# Altium integrated library NSC MiscPower.IntLib: 1417 symbols (part 9 of 39)
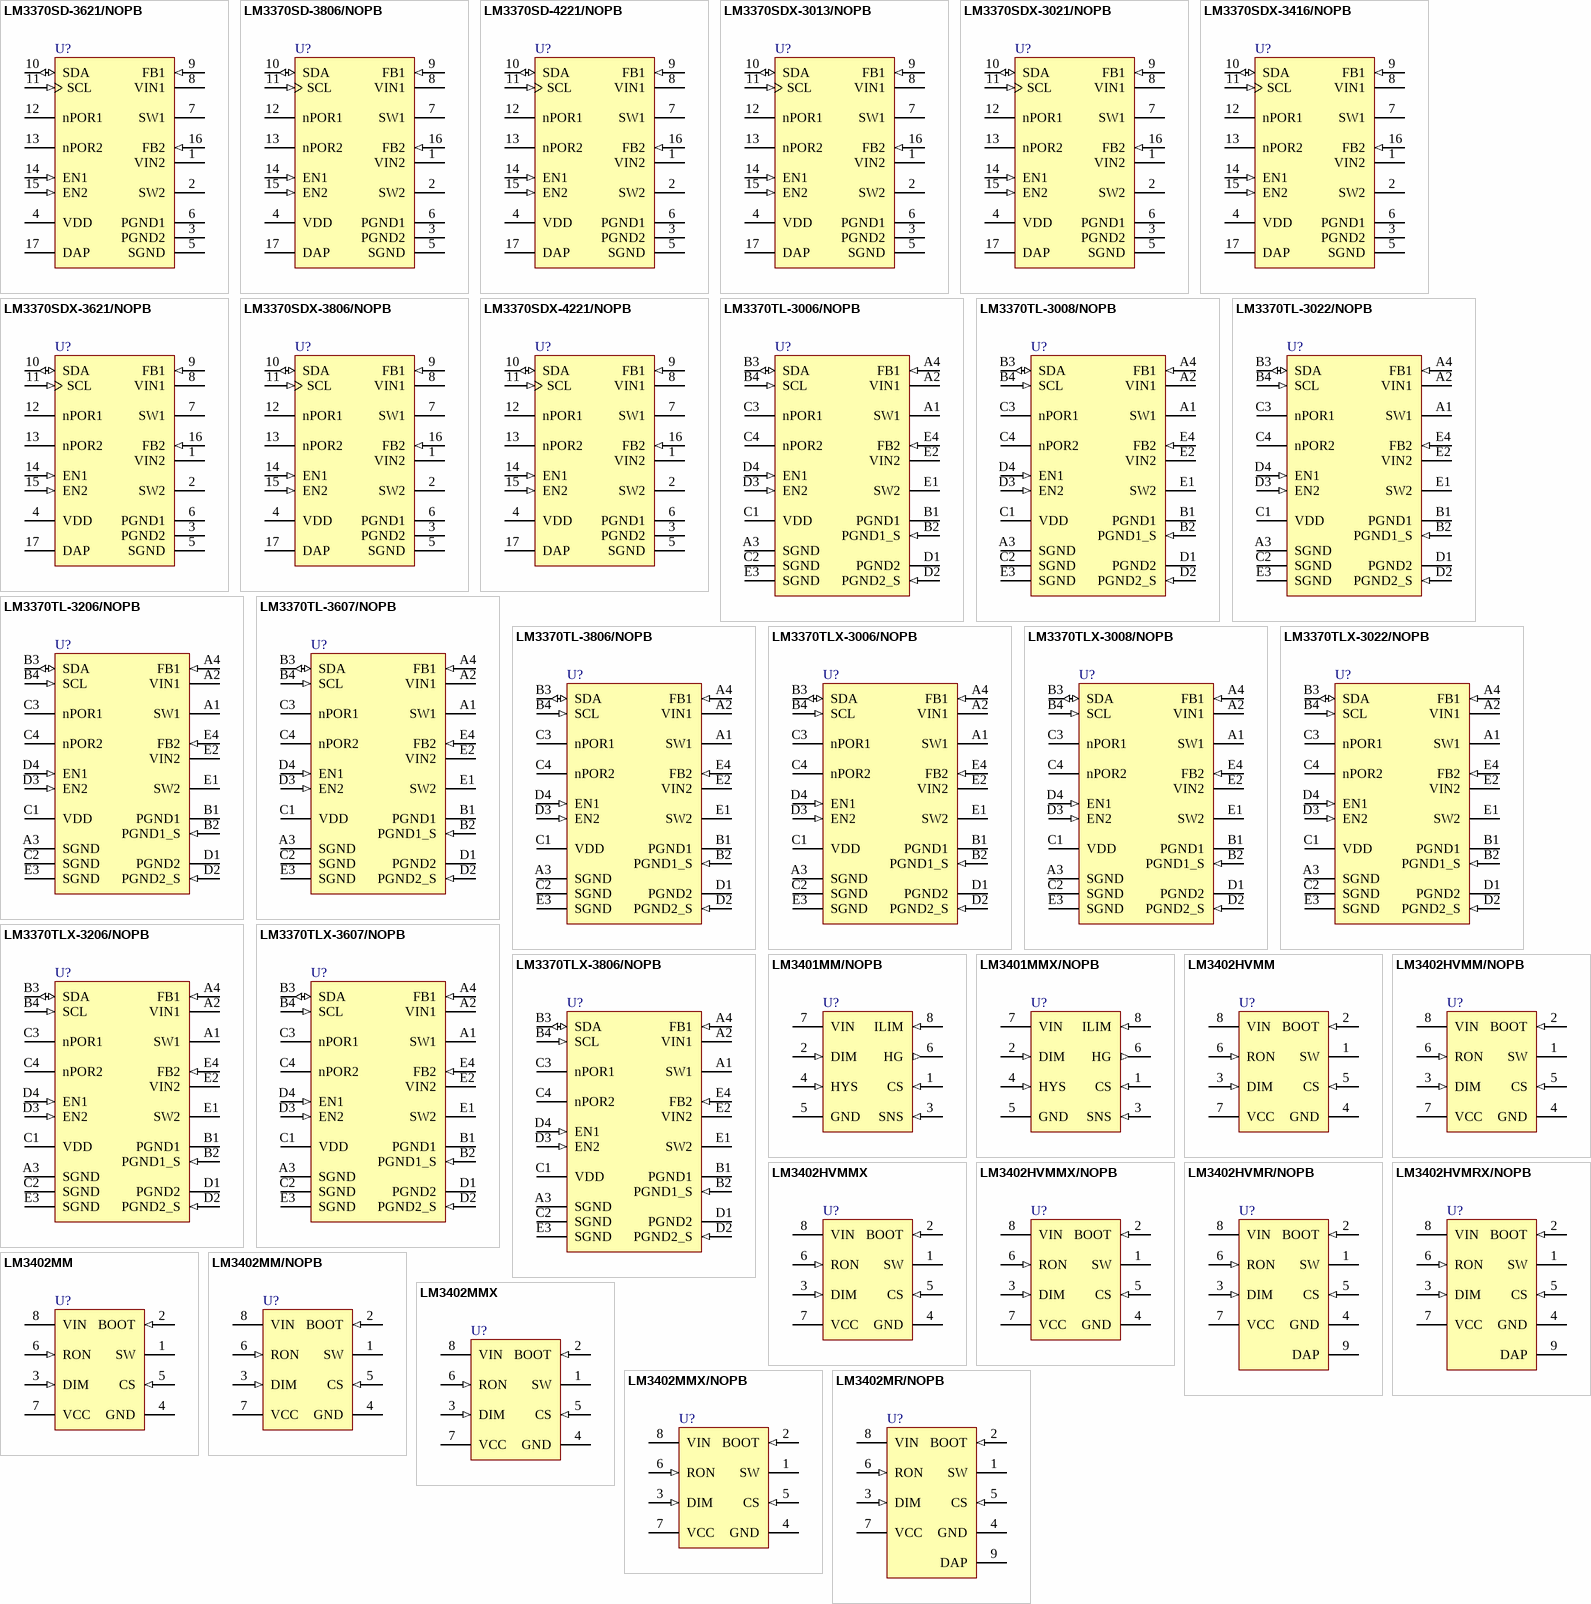
[diagram p59: symbols LM3370SD-3621/NOPB to LM3402MR/NOPB]

## LM3370TLX-3206/NOPB
designator U?
Dual Synchronous Step-Down DC-DC Converter with Dynamic Voltage Scaling Function, 20-pin Micro SMD, Pb-Free; PartNumber: LM3370TLX-3206/NOPB; Manufacturer: National Semiconductor; PackageTopMarking: XYTT*I SPXB; PowerWise: Y; CompType: MiscPower; Published: 1-Mar-2010; DatasheetVersion: Jan-2008; PackageVersion: revC, Jan-2004; PackageReference: TLA20DWA; Publisher: Altium Limited; PackageDescription: Thin Micro SMD, 20 Bump (Large), 0.5mm Pitch; Supplier 1: Digi-Key; Supplier Part Number 1: LM3370TLX-3206-ND; RoHS: Y; PinCount: 20; Code_JEDEC: MO-211-DG; ComponentLink1Description: LM3370 Datasheet; ComponentLink1URL: http://www.national.com/ds/LM/LM3370.pdf; ComponentLink2Description: LM3370 Web Page; ComponentLink2URL: http://www.national.com/pf/LM/LM3370.html; ComponentLink3Description: TLA20DWA Package Page; ComponentLink3URL: http://www.national.com/packaging/folders/tla20dwa.html
footprint TLA20DWA (Micro SMD, 20-Leads, Body 3x2.05mm, Pitch 0.5mm, NSC Recommended)
pins: A1 SW1 (power) "Buck 1 Switch Pin", A2 VIN1 (power) "Power supply voltage input to PFET and NFET switches for Buck 1", A3 SGND (power) "Signal GND", A4 FB1 (in) "Analog Feedback Input for Buck 1", B1 PGND1 (power) "Buck 1 Power Ground", B2 PGND1_S (in) "Buck 1 Power Ground Sense", B3 SDA (io) "I2C Compatible Data, a 2 kOhm pull up resistor is required", B4 SCL (in) "I2C Compatible Clock, a 2 kOhm pull up resistor is required", C1 VDD (power) "Signal supply voltage input.", C2 SGND (power) "Signal GND", C3 nPOR1 (oc) "Power ON Reset for Buck 1, Open drain output Low when Buck 1 output is 92% of target output.", C4 nPOR2 (oc) "Power ON Reset for Buck 2, Open drain output Low when Buck 2 output is 92% of target output.", D1 PGND2 (power) "Buck 2 Power Ground", D2 PGND2_S (in) "Buck 2 Power Ground Sense", D3 EN2 (in) "Buck 2 Enable", D4 EN1 (in) "Buck 1 Enable", E1 SW2 (power) "Buck 2 Switch Pin", E2 VIN2 (power) "Power supply voltage input to PFET and NFET switches for Buck 2", E3 SGND (power) "Signal GND", E4 FB2 (in) "Analog feedback for Buck 2"

## LM3370TLX-3607/NOPB
designator U?
Dual Synchronous Step-Down DC-DC Converter with Dynamic Voltage Scaling Function, 20-pin Micro SMD, Pb-Free; PartNumber: LM3370TLX-3607/NOPB; Manufacturer: National Semiconductor; PackageTopMarking: XYTT*I SPSB; PowerWise: Y; CompType: MiscPower; Published: 1-Mar-2010; DatasheetVersion: Jan-2008; PackageVersion: revC, Jan-2004; PackageReference: TLA20DWA; Publisher: Altium Limited; PackageDescription: Thin Micro SMD, 20 Bump (Large), 0.5mm Pitch; Supplier 1: Digi-Key; Supplier Part Number 1: LM3370TLX-3607-ND; RoHS: Y; PinCount: 20; Code_JEDEC: MO-211-DG; ComponentLink1Description: LM3370 Datasheet; ComponentLink1URL: http://www.national.com/ds/LM/LM3370.pdf; ComponentLink2Description: LM3370 Web Page; ComponentLink2URL: http://www.national.com/pf/LM/LM3370.html; ComponentLink3Description: TLA20DWA Package Page; ComponentLink3URL: http://www.national.com/packaging/folders/tla20dwa.html
footprint TLA20DWA (Micro SMD, 20-Leads, Body 3x2.05mm, Pitch 0.5mm, NSC Recommended)
pins: A1 SW1 (power) "Buck 1 Switch Pin", A2 VIN1 (power) "Power supply voltage input to PFET and NFET switches for Buck 1", A3 SGND (power) "Signal GND", A4 FB1 (in) "Analog Feedback Input for Buck 1", B1 PGND1 (power) "Buck 1 Power Ground", B2 PGND1_S (in) "Buck 1 Power Ground Sense", B3 SDA (io) "I2C Compatible Data, a 2 kOhm pull up resistor is required", B4 SCL (in) "I2C Compatible Clock, a 2 kOhm pull up resistor is required", C1 VDD (power) "Signal supply voltage input.", C2 SGND (power) "Signal GND", C3 nPOR1 (oc) "Power ON Reset for Buck 1, Open drain output Low when Buck 1 output is 92% of target output.", C4 nPOR2 (oc) "Power ON Reset for Buck 2, Open drain output Low when Buck 2 output is 92% of target output.", D1 PGND2 (power) "Buck 2 Power Ground", D2 PGND2_S (in) "Buck 2 Power Ground Sense", D3 EN2 (in) "Buck 2 Enable", D4 EN1 (in) "Buck 1 Enable", E1 SW2 (power) "Buck 2 Switch Pin", E2 VIN2 (power) "Power supply voltage input to PFET and NFET switches for Buck 2", E3 SGND (power) "Signal GND", E4 FB2 (in) "Analog feedback for Buck 2"

## LM3370TLX-3806/NOPB
designator U?
Dual Synchronous Step-Down DC-DC Converter with Dynamic Voltage Scaling Function, 20-pin Micro SMD, Pb-Free; PartNumber: LM3370TLX-3806/NOPB; Manufacturer: National Semiconductor; PackageTopMarking: XYTT*I SPVB; PowerWise: Y; CompType: MiscPower; Published: 1-Mar-2010; DatasheetVersion: Jan-2008; PackageVersion: revC, Jan-2004; PackageReference: TLA20DWA; Publisher: Altium Limited; PackageDescription: Thin Micro SMD, 20 Bump (Large), 0.5mm Pitch; Supplier 1: Digi-Key; Supplier Part Number 1: LM3370TLX-3806-ND; RoHS: Y; PinCount: 20; Code_JEDEC: MO-211-DG; ComponentLink1Description: LM3370 Datasheet; ComponentLink1URL: http://www.national.com/ds/LM/LM3370.pdf; ComponentLink2Description: LM3370 Web Page; ComponentLink2URL: http://www.national.com/pf/LM/LM3370.html; ComponentLink3Description: TLA20DWA Package Page; ComponentLink3URL: http://www.national.com/packaging/folders/tla20dwa.html
footprint TLA20DWA (Micro SMD, 20-Leads, Body 3x2.05mm, Pitch 0.5mm, NSC Recommended)
pins: A1 SW1 (power) "Buck 1 Switch Pin", A2 VIN1 (power) "Power supply voltage input to PFET and NFET switches for Buck 1", A3 SGND (power) "Signal GND", A4 FB1 (in) "Analog Feedback Input for Buck 1", B1 PGND1 (power) "Buck 1 Power Ground", B2 PGND1_S (in) "Buck 1 Power Ground Sense", B3 SDA (io) "I2C Compatible Data, a 2 kOhm pull up resistor is required", B4 SCL (in) "I2C Compatible Clock, a 2 kOhm pull up resistor is required", C1 VDD (power) "Signal supply voltage input.", C2 SGND (power) "Signal GND", C3 nPOR1 (oc) "Power ON Reset for Buck 1, Open drain output Low when Buck 1 output is 92% of target output.", C4 nPOR2 (oc) "Power ON Reset for Buck 2, Open drain output Low when Buck 2 output is 92% of target output.", D1 PGND2 (power) "Buck 2 Power Ground", D2 PGND2_S (in) "Buck 2 Power Ground Sense", D3 EN2 (in) "Buck 2 Enable", D4 EN1 (in) "Buck 1 Enable", E1 SW2 (power) "Buck 2 Switch Pin", E2 VIN2 (power) "Power supply voltage input to PFET and NFET switches for Buck 2", E3 SGND (power) "Signal GND", E4 FB2 (in) "Analog feedback for Buck 2"

## LM3401MM/NOPB
designator U?
Hysteretic PFET Controller for High Power LED Drive, 8-pin MSOP, Pb-Free; PartNumber: LM3401MM/NOPB; Manufacturer: National Semiconductor; PackageTopMarking: ZXTT*SNHB; PowerWise: Y; CompType: MiscPower; Published: 1-Mar-2010; DatasheetVersion: Mar-2008; PackageVersion: revF, Apr-2008; PackageReference: MUA08A; Publisher: Altium Limited; PackageDescription: MINI SOIC, .118 x .118 x .034in, 8 Lead, .0256in Pitch; Supplier 1: Digi-Key; Supplier Part Number 1: LM3401MMTR-ND; Supplier 2: Digi-Key; Supplier Part Number 2: LM3401MMCT-ND; Supplier 3: Digi-Key; Supplier Part Number 3: LM3401MMDKR-ND; Supplier 4: Farnell; Supplier Part Number 4: 1675293; RoHS: Y; PinCount: 8; Code_JEDEC: MO-187-AA; ComponentLink1Description: LM3401 Datasheet; ComponentLink1URL: http://www.national.com/ds/LM/LM3401.pdf; ComponentLink2Description: LM3401 Web Page; ComponentLink2URL: http://www.national.com/pf/LM/LM3401.html; ComponentLink3Description: MUA08A Package Page; ComponentLink3URL: http://www.national.com/packaging/folders/mua08a.html
footprint MUA08A_N (TSOP, 8-Leads, Body 3x3mm, Pitch 0.65mm, IPC Medium Density)
footprint MUA08A_L (TSOP, 8-Leads, Body 3x3mm, Pitch 0.65mm, IPC High Density)
footprint MUA08A_M (TSOP, 8-Leads, Body 3x3mm, Pitch 0.65mm, IPC Low Density)
pins: 1 CS (in), 2 DIM (in), 3 SNS (in), 4 HYS (in), 5 GND (power), 6 HG (out), 7 VIN (power), 8 ILIM (in)

## LM3401MMX/NOPB
designator U?
Hysteretic PFET Controller for High Power LED Drive, 8-pin MSOP, Pb-Free; PartNumber: LM3401MMX/NOPB; Manufacturer: National Semiconductor; PackageTopMarking: ZXTT*SNHB; PowerWise: Y; CompType: MiscPower; Published: 1-Mar-2010; DatasheetVersion: Mar-2008; PackageVersion: revF, Apr-2008; PackageReference: MUA08A; Publisher: Altium Limited; PackageDescription: MINI SOIC, .118 x .118 x .034in, 8 Lead, .0256in Pitch; Supplier 1: Digi-Key; Supplier Part Number 1: LM3401MMX-ND; RoHS: Y; PinCount: 8; Code_JEDEC: MO-187-AA; ComponentLink1Description: LM3401 Datasheet; ComponentLink1URL: http://www.national.com/ds/LM/LM3401.pdf; ComponentLink2Description: LM3401 Web Page; ComponentLink2URL: http://www.national.com/pf/LM/LM3401.html; ComponentLink3Description: MUA08A Package Page; ComponentLink3URL: http://www.national.com/packaging/folders/mua08a.html
footprint MUA08A_N (TSOP, 8-Leads, Body 3x3mm, Pitch 0.65mm, IPC Medium Density)
footprint MUA08A_L (TSOP, 8-Leads, Body 3x3mm, Pitch 0.65mm, IPC High Density)
footprint MUA08A_M (TSOP, 8-Leads, Body 3x3mm, Pitch 0.65mm, IPC Low Density)
pins: 1 CS (in), 2 DIM (in), 3 SNS (in), 4 HYS (in), 5 GND (power), 6 HG (out), 7 VIN (power), 8 ILIM (in)

## LM3402HVMM
designator U?
0.5A Constant Current Buck Regulator for High Power LED Drivers, 8-pin MSOP; PartNumber: LM3402HVMM; Manufacturer: National Semiconductor; PackageTopMarking: ZXTT*SNFB; PowerWise: Y; CompType: MiscPower; Published: 4-Dec-2008; DatasheetVersion: Feb-2010; PackageVersion: revF, Apr-2008; PackageReference: MUA08A; Publisher: Altium Limited; PackageDescription: MINI SOIC, .118 x .118 x .034in, 8 Lead, .0256in Pitch; Supplier 1: Farnell; Supplier Part Number 1: 1290934; RoHS: N; PinCount: 8; Code_JEDEC: MO-187-AA; ComponentLink1Description: LM3402HV Datasheet; ComponentLink1URL: http://www.national.com/ds/LM/LM3402HV.pdf; ComponentLink2Description: LM3402HV Web Page; ComponentLink2URL: http://www.national.com/pf/LM/LM3402HV.html; ComponentLink3Description: MUA08A Package Page; ComponentLink3URL: http://www.national.com/packaging/folders/mua08a.html
footprint MUA08A_N (TSOP, 8-Leads, Body 3x3mm, Pitch 0.65mm, IPC Medium Density)
footprint MUA08A_L (TSOP, 8-Leads, Body 3x3mm, Pitch 0.65mm, IPC High Density)
footprint MUA08A_M (TSOP, 8-Leads, Body 3x3mm, Pitch 0.65mm, IPC Low Density)
pins: 1 SW (power), 2 BOOT (in), 3 DIM (in), 4 GND (power), 5 CS (in), 6 RON (in), 7 VCC (power), 8 VIN (power)

## LM3402HVMM/NOPB
designator U?
0.5A Constant Current Buck Regulator for High Power LED Drivers, 8-pin MSOP, Pb-Free; PartNumber: LM3402HVMM/NOPB; Manufacturer: National Semiconductor; PackageTopMarking: ZXTT*SNFB; PowerWise: Y; CompType: MiscPower; Published: 1-Mar-2010; DatasheetVersion: Jun-2007; PackageVersion: revF, Apr-2008; PackageReference: MUA08A; Publisher: Altium Limited; PackageDescription: MINI SOIC, .118 x .118 x .034in, 8 Lead, .0256in Pitch; Supplier 1: Digi-Key; Supplier Part Number 1: LM3402HVMMTR-ND; Supplier 2: Digi-Key; Supplier Part Number 2: LM3402HVMMCT-ND; Supplier 3: Digi-Key; Supplier Part Number 3: LM3402HVMMDKR-ND; RoHS: Y; PinCount: 8; Code_JEDEC: MO-187-AA; ComponentLink1Description: LM3402HV Datasheet; ComponentLink1URL: http://www.national.com/ds/LM/LM3402HV.pdf; ComponentLink2Description: LM3402HV Web Page; ComponentLink2URL: http://www.national.com/pf/LM/LM3402HV.html; ComponentLink3Description: MUA08A Package Page; ComponentLink3URL: http://www.national.com/packaging/folders/mua08a.html
footprint MUA08A_N (TSOP, 8-Leads, Body 3x3mm, Pitch 0.65mm, IPC Medium Density)
footprint MUA08A_L (TSOP, 8-Leads, Body 3x3mm, Pitch 0.65mm, IPC High Density)
footprint MUA08A_M (TSOP, 8-Leads, Body 3x3mm, Pitch 0.65mm, IPC Low Density)
pins: 1 SW (power), 2 BOOT (in), 3 DIM (in), 4 GND (power), 5 CS (in), 6 RON (in), 7 VCC (power), 8 VIN (power)

## LM3402HVMMX
designator U?
0.5A Constant Current Buck Regulator for High Power LED Drivers, 8-pin MSOP; PartNumber: LM3402HVMMX; Manufacturer: National Semiconductor; PackageTopMarking: ZXTT*SNFB; PowerWise: Y; CompType: MiscPower; Published: 1-Mar-2010; DatasheetVersion: Jun-2007; PackageVersion: revF, Apr-2008; PackageReference: MUA08A; Publisher: Altium Limited; PackageDescription: MINI SOIC, .118 x .118 x .034in, 8 Lead, .0256in Pitch; RoHS: N; PinCount: 8; Code_JEDEC: MO-187-AA; ComponentLink1Description: LM3402HV Datasheet; ComponentLink1URL: http://www.national.com/ds/LM/LM3402HV.pdf; ComponentLink2Description: LM3402HV Web Page; ComponentLink2URL: http://www.national.com/pf/LM/LM3402HV.html; ComponentLink3Description: MUA08A Package Page; ComponentLink3URL: http://www.national.com/packaging/folders/mua08a.html
footprint MUA08A_N (TSOP, 8-Leads, Body 3x3mm, Pitch 0.65mm, IPC Medium Density)
footprint MUA08A_L (TSOP, 8-Leads, Body 3x3mm, Pitch 0.65mm, IPC High Density)
footprint MUA08A_M (TSOP, 8-Leads, Body 3x3mm, Pitch 0.65mm, IPC Low Density)
pins: 1 SW (power), 2 BOOT (in), 3 DIM (in), 4 GND (power), 5 CS (in), 6 RON (in), 7 VCC (power), 8 VIN (power)

## LM3402HVMMX/NOPB
designator U?
0.5A Constant Current Buck Regulator for High Power LED Drivers, 8-pin MSOP, Pb-Free; PartNumber: LM3402HVMMX/NOPB; Manufacturer: National Semiconductor; PackageTopMarking: ZXTT*SNFB; PowerWise: Y; CompType: MiscPower; Published: 1-Mar-2010; DatasheetVersion: Jun-2007; PackageVersion: revF, Apr-2008; PackageReference: MUA08A; Publisher: Altium Limited; PackageDescription: MINI SOIC, .118 x .118 x .034in, 8 Lead, .0256in Pitch; Supplier 1: Digi-Key; Supplier Part Number 1: LM3402HVMMX-ND; RoHS: Y; PinCount: 8; Code_JEDEC: MO-187-AA; ComponentLink1Description: LM3402HV Datasheet; ComponentLink1URL: http://www.national.com/ds/LM/LM3402HV.pdf; ComponentLink2Description: LM3402HV Web Page; ComponentLink2URL: http://www.national.com/pf/LM/LM3402HV.html; ComponentLink3Description: MUA08A Package Page; ComponentLink3URL: http://www.national.com/packaging/folders/mua08a.html
footprint MUA08A_N (TSOP, 8-Leads, Body 3x3mm, Pitch 0.65mm, IPC Medium Density)
footprint MUA08A_L (TSOP, 8-Leads, Body 3x3mm, Pitch 0.65mm, IPC High Density)
footprint MUA08A_M (TSOP, 8-Leads, Body 3x3mm, Pitch 0.65mm, IPC Low Density)
pins: 1 SW (power), 2 BOOT (in), 3 DIM (in), 4 GND (power), 5 CS (in), 6 RON (in), 7 VCC (power), 8 VIN (power)

## LM3402HVMR/NOPB
designator U?
0.5A Constant Current Buck Regulator for High Power LED Drivers, 8-pin PSOP, Pb-Free; PartNumber: LM3402HVMR/NOPB; Manufacturer: National Semiconductor; PackageTopMarking: NSXYTT*L3402*HVMR; PowerWise: N; CompType: MiscPower; Published: 1-Mar-2010; DatasheetVersion: Jun-2007; PackageVersion: revB, Dec-2007; PackageReference: MRA08B; Publisher: Altium Limited; PackageDescription: Molded, PSOP .193 x .154 x .058in, 8 Lead, .050in Pitch, Large DAP; Supplier 1: Digi-Key; Supplier Part Number 1: LM3402HVMR-ND; Supplier 2: Farnell; Supplier Part Number 2: 1652390; RoHS: Y; PinCount: 8; Code_JEDEC: MS-012-AA; ComponentLink1Description: LM3402HV Datasheet; ComponentLink1URL: http://www.national.com/ds/LM/LM3402HV.pdf; ComponentLink2Description: LM3402HV Web Page; ComponentLink2URL: http://www.national.com/pf/LM/LM3402HV.html; ComponentLink3Description: MRA08B Package Page; ComponentLink3URL: http://www.national.com/packaging/folders/mra08b.html
footprint MRA08B_N (SOIC, 8-Leads, Body 4.9x3.9mm, Pitch 1.27mm, Exposed Pad, IPC Medium Density)
footprint MRA08B_L (SOIC, 8-Leads, Body 4.9x3.9mm, Pitch 1.27mm, Exposed Pad, IPC High Density)
footprint MRA08B_M (SOIC, 8-Leads, Body 4.9x3.9mm, Pitch 1.27mm, Exposed Pad, IPC Low Density)
pins: 1 SW (power), 2 BOOT (in), 3 DIM (in), 4 GND (power), 5 CS (in), 6 RON (in), 7 VCC (power), 8 VIN (power), 9 DAP (power)

## LM3402HVMRX/NOPB
designator U?
0.5A Constant Current Buck Regulator for High Power LED Drivers, 8-pin PSOP, Pb-Free; PartNumber: LM3402HVMRX/NOPB; Manufacturer: National Semiconductor; PackageTopMarking: NSXYTT*L3402*HVMR; PowerWise: N; CompType: MiscPower; Published: 1-Mar-2010; DatasheetVersion: Jun-2007; PackageVersion: revB, Dec-2007; PackageReference: MRA08B; Publisher: Altium Limited; PackageDescription: Molded, PSOP .193 x .154 x .058in, 8 Lead, .050in Pitch, Large DAP; Supplier 1: Digi-Key; Supplier Part Number 1: LM3402HVMRX-ND; RoHS: Y; PinCount: 8; Code_JEDEC: MS-012-AA; ComponentLink1Description: LM3402HV Datasheet; ComponentLink1URL: http://www.national.com/ds/LM/LM3402HV.pdf; ComponentLink2Description: LM3402HV Web Page; ComponentLink2URL: http://www.national.com/pf/LM/LM3402HV.html; ComponentLink3Description: MRA08B Package Page; ComponentLink3URL: http://www.national.com/packaging/folders/mra08b.html
footprint MRA08B_N (SOIC, 8-Leads, Body 4.9x3.9mm, Pitch 1.27mm, Exposed Pad, IPC Medium Density)
footprint MRA08B_L (SOIC, 8-Leads, Body 4.9x3.9mm, Pitch 1.27mm, Exposed Pad, IPC High Density)
footprint MRA08B_M (SOIC, 8-Leads, Body 4.9x3.9mm, Pitch 1.27mm, Exposed Pad, IPC Low Density)
pins: 1 SW (power), 2 BOOT (in), 3 DIM (in), 4 GND (power), 5 CS (in), 6 RON (in), 7 VCC (power), 8 VIN (power), 9 DAP (power)

## LM3402MM
designator U?
0.5A Constant Current Buck Regulator for High Power LED Drivers, 8-pin MSOP; PartNumber: LM3402MM; Manufacturer: National Semiconductor; PackageTopMarking: ZXTT*SNEB; PowerWise: Y; CompType: MiscPower; Published: 4-Dec-2008; DatasheetVersion: Feb-2010; PackageVersion: revF, Apr-2008; PackageReference: MUA08A; Publisher: Altium Limited; PackageDescription: MINI SOIC, .118 x .118 x .034in, 8 Lead, .0256in Pitch; Supplier 1: Farnell; Supplier Part Number 1: 1290935; RoHS: N; PinCount: 8; Code_JEDEC: MO-187-AA; ComponentLink1Description: LM3402 Datasheet; ComponentLink1URL: http://www.national.com/ds/LM/LM3402.pdf; ComponentLink2Description: LM3402 Web Page; ComponentLink2URL: http://www.national.com/pf/LM/LM3402.html; ComponentLink3Description: MUA08A Package Page; ComponentLink3URL: http://www.national.com/packaging/folders/mua08a.html
footprint MUA08A_N (TSOP, 8-Leads, Body 3x3mm, Pitch 0.65mm, IPC Medium Density)
footprint MUA08A_L (TSOP, 8-Leads, Body 3x3mm, Pitch 0.65mm, IPC High Density)
footprint MUA08A_M (TSOP, 8-Leads, Body 3x3mm, Pitch 0.65mm, IPC Low Density)
pins: 1 SW (power), 2 BOOT (in), 3 DIM (in), 4 GND (power), 5 CS (in), 6 RON (in), 7 VCC (power), 8 VIN (power)

## LM3402MM/NOPB
designator U?
0.5A Constant Current Buck Regulator for High Power LED Drivers, 8-pin MSOP, Pb-Free; PartNumber: LM3402MM/NOPB; Manufacturer: National Semiconductor; PackageTopMarking: ZXTT*SNEB; PowerWise: Y; CompType: MiscPower; Published: 1-Mar-2010; DatasheetVersion: Jun-2007; PackageVersion: revF, Apr-2008; PackageReference: MUA08A; Publisher: Altium Limited; PackageDescription: MINI SOIC, .118 x .118 x .034in, 8 Lead, .0256in Pitch; Supplier 1: Digi-Key; Supplier Part Number 1: LM3402MMTR-ND; Supplier 2: Digi-Key; Supplier Part Number 2: LM3402MMCT-ND; Supplier 3: Digi-Key; Supplier Part Number 3: LM3402MMDKR-ND; Supplier 4: Farnell; Supplier Part Number 4: 1654278; RoHS: Y; PinCount: 8; Code_JEDEC: MO-187-AA; ComponentLink1Description: LM3402 Datasheet; ComponentLink1URL: http://www.national.com/ds/LM/LM3402.pdf; ComponentLink2Description: LM3402 Web Page; ComponentLink2URL: http://www.national.com/pf/LM/LM3402.html; ComponentLink3Description: MUA08A Package Page; ComponentLink3URL: http://www.national.com/packaging/folders/mua08a.html
footprint MUA08A_N (TSOP, 8-Leads, Body 3x3mm, Pitch 0.65mm, IPC Medium Density)
footprint MUA08A_L (TSOP, 8-Leads, Body 3x3mm, Pitch 0.65mm, IPC High Density)
footprint MUA08A_M (TSOP, 8-Leads, Body 3x3mm, Pitch 0.65mm, IPC Low Density)
pins: 1 SW (power), 2 BOOT (in), 3 DIM (in), 4 GND (power), 5 CS (in), 6 RON (in), 7 VCC (power), 8 VIN (power)

## LM3402MMX
designator U?
0.5A Constant Current Buck Regulator for High Power LED Drivers, 8-pin MSOP; PartNumber: LM3402MMX; Manufacturer: National Semiconductor; PackageTopMarking: ZXTT*SNEB; PowerWise: Y; CompType: MiscPower; Published: 1-Mar-2010; DatasheetVersion: Jun-2007; PackageVersion: revF, Apr-2008; PackageReference: MUA08A; Publisher: Altium Limited; PackageDescription: MINI SOIC, .118 x .118 x .034in, 8 Lead, .0256in Pitch; RoHS: N; PinCount: 8; Code_JEDEC: MO-187-AA; ComponentLink1Description: LM3402 Datasheet; ComponentLink1URL: http://www.national.com/ds/LM/LM3402.pdf; ComponentLink2Description: LM3402 Web Page; ComponentLink2URL: http://www.national.com/pf/LM/LM3402.html; ComponentLink3Description: MUA08A Package Page; ComponentLink3URL: http://www.national.com/packaging/folders/mua08a.html
footprint MUA08A_N (TSOP, 8-Leads, Body 3x3mm, Pitch 0.65mm, IPC Medium Density)
footprint MUA08A_L (TSOP, 8-Leads, Body 3x3mm, Pitch 0.65mm, IPC High Density)
footprint MUA08A_M (TSOP, 8-Leads, Body 3x3mm, Pitch 0.65mm, IPC Low Density)
pins: 1 SW (power), 2 BOOT (in), 3 DIM (in), 4 GND (power), 5 CS (in), 6 RON (in), 7 VCC (power), 8 VIN (power)

## LM3402MMX/NOPB
designator U?
0.5A Constant Current Buck Regulator for High Power LED Drivers, 8-pin MSOP, Pb-Free; PartNumber: LM3402MMX/NOPB; Manufacturer: National Semiconductor; PackageTopMarking: ZXTT*SNEB; PowerWise: Y; CompType: MiscPower; Published: 1-Mar-2010; DatasheetVersion: Jun-2007; PackageVersion: revF, Apr-2008; PackageReference: MUA08A; Publisher: Altium Limited; PackageDescription: MINI SOIC, .118 x .118 x .034in, 8 Lead, .0256in Pitch; Supplier 1: Digi-Key; Supplier Part Number 1: LM3402MMX-ND; RoHS: Y; PinCount: 8; Code_JEDEC: MO-187-AA; ComponentLink1Description: LM3402 Datasheet; ComponentLink1URL: http://www.national.com/ds/LM/LM3402.pdf; ComponentLink2Description: LM3402 Web Page; ComponentLink2URL: http://www.national.com/pf/LM/LM3402.html; ComponentLink3Description: MUA08A Package Page; ComponentLink3URL: http://www.national.com/packaging/folders/mua08a.html
footprint MUA08A_N (TSOP, 8-Leads, Body 3x3mm, Pitch 0.65mm, IPC Medium Density)
footprint MUA08A_L (TSOP, 8-Leads, Body 3x3mm, Pitch 0.65mm, IPC High Density)
footprint MUA08A_M (TSOP, 8-Leads, Body 3x3mm, Pitch 0.65mm, IPC Low Density)
pins: 1 SW (power), 2 BOOT (in), 3 DIM (in), 4 GND (power), 5 CS (in), 6 RON (in), 7 VCC (power), 8 VIN (power)

## LM3402MR/NOPB
designator U?
0.5A Constant Current Buck Regulator for High Power LED Drivers, 8-pin PSOP, Pb-Free; PartNumber: LM3402MR/NOPB; Manufacturer: National Semiconductor; PackageTopMarking: NSXYTT*L3402*MR; PowerWise: N; CompType: MiscPower; Published: 1-Mar-2010; DatasheetVersion: Jun-2007; PackageVersion: revB, Dec-2007; PackageReference: MRA08B; Publisher: Altium Limited; PackageDescription: Molded, PSOP .193 x .154 x .058in, 8 Lead, .050in Pitch, Large DAP; Supplier 1: Digi-Key; Supplier Part Number 1: LM3402MR-ND; Supplier 2: Farnell; Supplier Part Number 2: 1564796; RoHS: Y; PinCount: 8; Code_JEDEC: MS-012-AA; ComponentLink1Description: LM3402 Datasheet; ComponentLink1URL: http://www.national.com/ds/LM/LM3402.pdf; ComponentLink2Description: LM3402 Web Page; ComponentLink2URL: http://www.national.com/pf/LM/LM3402.html; ComponentLink3Description: MRA08B Package Page; ComponentLink3URL: http://www.national.com/packaging/folders/mra08b.html
footprint MRA08B_N (SOIC, 8-Leads, Body 4.9x3.9mm, Pitch 1.27mm, Exposed Pad, IPC Medium Density)
footprint MRA08B_L (SOIC, 8-Leads, Body 4.9x3.9mm, Pitch 1.27mm, Exposed Pad, IPC High Density)
footprint MRA08B_M (SOIC, 8-Leads, Body 4.9x3.9mm, Pitch 1.27mm, Exposed Pad, IPC Low Density)
pins: 1 SW (power), 2 BOOT (in), 3 DIM (in), 4 GND (power), 5 CS (in), 6 RON (in), 7 VCC (power), 8 VIN (power), 9 DAP (power)

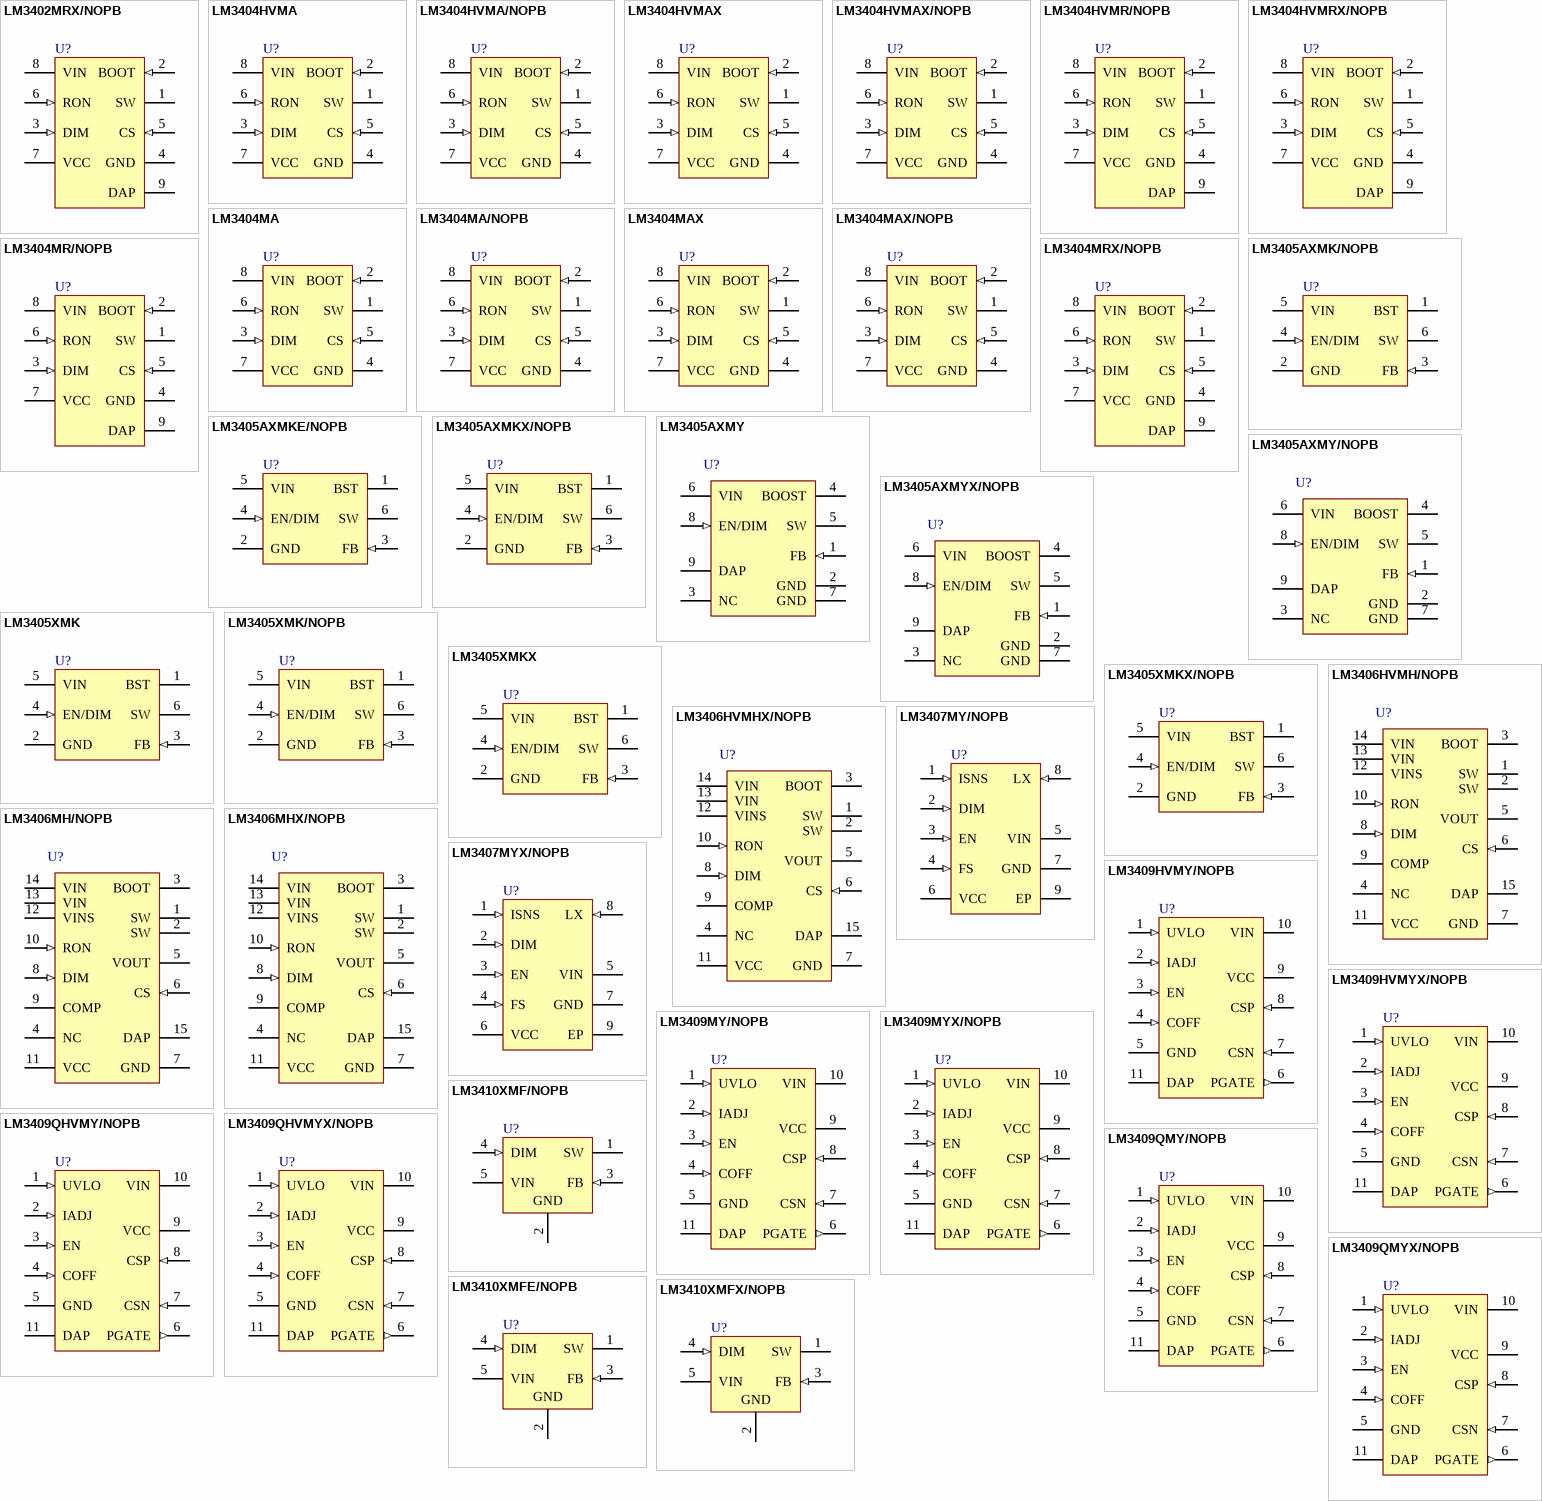
[diagram p10: symbols LM3402MRX/NOPB to LM3410XMFX/NOPB]

## LM3402MRX/NOPB
designator U?
0.5A Constant Current Buck Regulator for High Power LED Drivers, 8-pin PSOP, Pb-Free; PartNumber: LM3402MRX/NOPB; Manufacturer: National Semiconductor; PackageTopMarking: NSXYTT*L3402*MR; PowerWise: N; CompType: MiscPower; Published: 1-Mar-2010; DatasheetVersion: Jun-2007; PackageVersion: revB, Dec-2007; PackageReference: MRA08B; Publisher: Altium Limited; PackageDescription: Molded, PSOP .193 x .154 x .058in, 8 Lead, .050in Pitch, Large DAP; Supplier 1: Digi-Key; Supplier Part Number 1: LM3402MRX-ND; RoHS: Y; PinCount: 8; Code_JEDEC: MS-012-AA; ComponentLink1Description: LM3402 Datasheet; ComponentLink1URL: http://www.national.com/ds/LM/LM3402.pdf; ComponentLink2Description: LM3402 Web Page; ComponentLink2URL: http://www.national.com/pf/LM/LM3402.html; ComponentLink3Description: MRA08B Package Page; ComponentLink3URL: http://www.national.com/packaging/folders/mra08b.html
footprint MRA08B_N (SOIC, 8-Leads, Body 4.9x3.9mm, Pitch 1.27mm, Exposed Pad, IPC Medium Density)
footprint MRA08B_L (SOIC, 8-Leads, Body 4.9x3.9mm, Pitch 1.27mm, Exposed Pad, IPC High Density)
footprint MRA08B_M (SOIC, 8-Leads, Body 4.9x3.9mm, Pitch 1.27mm, Exposed Pad, IPC Low Density)
pins: 1 SW (power), 2 BOOT (in), 3 DIM (in), 4 GND (power), 5 CS (in), 6 RON (in), 7 VCC (power), 8 VIN (power), 9 DAP (power)

## LM3404HVMA
designator U?
1.0A Constant Current Buck Regulator for High Power LED Drivers, 8-pin Narrow SOIC; PartNumber: LM3404HVMA; Manufacturer: National Semiconductor; PackageTopMarking: NSZXTT*L3404*HVMA; PowerWise: Y; CompType: MiscPower; Published: 4-Dec-2008; DatasheetVersion: Feb-2010; PackageVersion: revM, May-2009; PackageReference: M08A; Publisher: Altium Limited; PackageDescription: SOIC Narrow, 4.9 x 3.9 x 1.45mm, 8 Lead, 1.27mm Pitch; Supplier 1: Farnell; Supplier Part Number 1: 1320972; RoHS: N; PinCount: 8; Code_JEDEC: MS-012-AA; Code_IPC: SOIC127P600-8; ComponentLink1Description: LM3404HV Datasheet; ComponentLink1URL: http://www.national.com/ds/LM/LM3404HV.pdf; ComponentLink2Description: LM3404HV Web Page; ComponentLink2URL: http://www.national.com/pf/LM/LM3404HV.html; ComponentLink3Description: M08A Package Page; ComponentLink3URL: http://www.national.com/packaging/folders/m08a.html
footprint M08A_N (SOIC, 8-Leads, Body 4.9x3.9mm, Pitch 1.27mm, IPC Medium Density)
footprint M08A_L (SOIC, 8-Leads, Body 4.9x3.9mm, Pitch 1.27mm, IPC High Density)
footprint M08A_M (SOIC, 8-Leads, Body 4.9x3.9mm, Pitch 1.27mm, IPC Low Density)
pins: 1 SW (power), 2 BOOT (in), 3 DIM (in), 4 GND (power), 5 CS (in), 6 RON (in), 7 VCC (power), 8 VIN (power)

## LM3404HVMA/NOPB
designator U?
1.0A Constant Current Buck Regulator for High Power LED Drivers, 8-pin Narrow SOIC, Pb-Free; PartNumber: LM3404HVMA/NOPB; Manufacturer: National Semiconductor; PackageTopMarking: NSZXTT*L3404*HVMA; PowerWise: Y; CompType: MiscPower; Published: 1-Mar-2010; DatasheetVersion: Jun-2007; PackageVersion: revM, May-2009; PackageReference: M08A; Publisher: Altium Limited; PackageDescription: SOIC Narrow, 4.9 x 3.9 x 1.45mm, 8 Lead, 1.27mm Pitch; Supplier 1: Digi-Key; Supplier Part Number 1: LM3404HVMA-ND; Supplier 2: Farnell; Supplier Part Number 2: 1469165; RoHS: Y; PinCount: 8; Code_JEDEC: MS-012-AA; Code_IPC: SOIC127P600-8; ComponentLink1Description: LM3404HV Datasheet; ComponentLink1URL: http://www.national.com/ds/LM/LM3404HV.pdf; ComponentLink2Description: LM3404HV Web Page; ComponentLink2URL: http://www.national.com/pf/LM/LM3404HV.html; ComponentLink3Description: M08A Package Page; ComponentLink3URL: http://www.national.com/packaging/folders/m08a.html
footprint M08A_N (SOIC, 8-Leads, Body 4.9x3.9mm, Pitch 1.27mm, IPC Medium Density)
footprint M08A_L (SOIC, 8-Leads, Body 4.9x3.9mm, Pitch 1.27mm, IPC High Density)
footprint M08A_M (SOIC, 8-Leads, Body 4.9x3.9mm, Pitch 1.27mm, IPC Low Density)
pins: 1 SW (power), 2 BOOT (in), 3 DIM (in), 4 GND (power), 5 CS (in), 6 RON (in), 7 VCC (power), 8 VIN (power)

## LM3404HVMAX
designator U?
1.0A Constant Current Buck Regulator for High Power LED Drivers, 8-pin Narrow SOIC; PartNumber: LM3404HVMAX; Manufacturer: National Semiconductor; PackageTopMarking: NSZXTT*L3404*HVMA; PowerWise: Y; CompType: MiscPower; Published: 1-Mar-2010; DatasheetVersion: Jun-2007; PackageVersion: revM, May-2009; PackageReference: M08A; Publisher: Altium Limited; PackageDescription: SOIC Narrow, 4.9 x 3.9 x 1.45mm, 8 Lead, 1.27mm Pitch; RoHS: N; PinCount: 8; Code_JEDEC: MS-012-AA; Code_IPC: SOIC127P600-8; ComponentLink1Description: LM3404HV Datasheet; ComponentLink1URL: http://www.national.com/ds/LM/LM3404HV.pdf; ComponentLink2Description: LM3404HV Web Page; ComponentLink2URL: http://www.national.com/pf/LM/LM3404HV.html; ComponentLink3Description: M08A Package Page; ComponentLink3URL: http://www.national.com/packaging/folders/m08a.html
footprint M08A_N (SOIC, 8-Leads, Body 4.9x3.9mm, Pitch 1.27mm, IPC Medium Density)
footprint M08A_L (SOIC, 8-Leads, Body 4.9x3.9mm, Pitch 1.27mm, IPC High Density)
footprint M08A_M (SOIC, 8-Leads, Body 4.9x3.9mm, Pitch 1.27mm, IPC Low Density)
pins: 1 SW (power), 2 BOOT (in), 3 DIM (in), 4 GND (power), 5 CS (in), 6 RON (in), 7 VCC (power), 8 VIN (power)

## LM3404HVMAX/NOPB
designator U?
1.0A Constant Current Buck Regulator for High Power LED Drivers, 8-pin Narrow SOIC, Pb-Free; PartNumber: LM3404HVMAX/NOPB; Manufacturer: National Semiconductor; PackageTopMarking: NSZXTT*L3404*HVMA; PowerWise: Y; CompType: MiscPower; Published: 1-Mar-2010; DatasheetVersion: Jun-2007; PackageVersion: revM, May-2009; PackageReference: M08A; Publisher: Altium Limited; PackageDescription: SOIC Narrow, 4.9 x 3.9 x 1.45mm, 8 Lead, 1.27mm Pitch; Supplier 1: Digi-Key; Supplier Part Number 1: LM3404HVMAX-ND; RoHS: Y; PinCount: 8; Code_JEDEC: MS-012-AA; Code_IPC: SOIC127P600-8; ComponentLink1Description: LM3404HV Datasheet; ComponentLink1URL: http://www.national.com/ds/LM/LM3404HV.pdf; ComponentLink2Description: LM3404HV Web Page; ComponentLink2URL: http://www.national.com/pf/LM/LM3404HV.html; ComponentLink3Description: M08A Package Page; ComponentLink3URL: http://www.national.com/packaging/folders/m08a.html
footprint M08A_N (SOIC, 8-Leads, Body 4.9x3.9mm, Pitch 1.27mm, IPC Medium Density)
footprint M08A_L (SOIC, 8-Leads, Body 4.9x3.9mm, Pitch 1.27mm, IPC High Density)
footprint M08A_M (SOIC, 8-Leads, Body 4.9x3.9mm, Pitch 1.27mm, IPC Low Density)
pins: 1 SW (power), 2 BOOT (in), 3 DIM (in), 4 GND (power), 5 CS (in), 6 RON (in), 7 VCC (power), 8 VIN (power)

## LM3404HVMR/NOPB
designator U?
1.0A Constant Current Buck Regulator for High Power LED Drivers, 8-pin PSOP, Pb-Free; PartNumber: LM3404HVMR/NOPB; Manufacturer: National Semiconductor; PackageTopMarking: NSXYTT*L3404*HVMR; PowerWise: Y; CompType: MiscPower; Published: 1-Mar-2010; DatasheetVersion: Jun-2007; PackageVersion: revB, Dec-2007; PackageReference: MRA08B; Publisher: Altium Limited; PackageDescription: Molded, PSOP .193 x .154 x .058in, 8 Lead, .050in Pitch, Large DAP; Supplier 1: Digi-Key; Supplier Part Number 1: LM3404HVMR-ND; Supplier 2: Farnell; Supplier Part Number 2: 1364354; RoHS: Y; PinCount: 8; Code_JEDEC: MS-012-AA; ComponentLink1Description: LM3404HV Datasheet; ComponentLink1URL: http://www.national.com/ds/LM/LM3404HV.pdf; ComponentLink2Description: LM3404HV Web Page; ComponentLink2URL: http://www.national.com/pf/LM/LM3404HV.html; ComponentLink3Description: MRA08B Package Page; ComponentLink3URL: http://www.national.com/packaging/folders/mra08b.html
footprint MRA08B_N (SOIC, 8-Leads, Body 4.9x3.9mm, Pitch 1.27mm, Exposed Pad, IPC Medium Density)
footprint MRA08B_L (SOIC, 8-Leads, Body 4.9x3.9mm, Pitch 1.27mm, Exposed Pad, IPC High Density)
footprint MRA08B_M (SOIC, 8-Leads, Body 4.9x3.9mm, Pitch 1.27mm, Exposed Pad, IPC Low Density)
pins: 1 SW (power), 2 BOOT (in), 3 DIM (in), 4 GND (power), 5 CS (in), 6 RON (in), 7 VCC (power), 8 VIN (power), 9 DAP (power)

## LM3404HVMRX/NOPB
designator U?
1.0A Constant Current Buck Regulator for High Power LED Drivers, 8-pin PSOP, Pb-Free; PartNumber: LM3404HVMRX/NOPB; Manufacturer: National Semiconductor; PackageTopMarking: NSXYTT*L3404*HVMR; PowerWise: Y; CompType: MiscPower; Published: 1-Mar-2010; DatasheetVersion: Jun-2007; PackageVersion: revB, Dec-2007; PackageReference: MRA08B; Publisher: Altium Limited; PackageDescription: Molded, PSOP .193 x .154 x .058in, 8 Lead, .050in Pitch, Large DAP; Supplier 1: Digi-Key; Supplier Part Number 1: LM3404HVMRX-ND; RoHS: Y; PinCount: 8; Code_JEDEC: MS-012-AA; ComponentLink1Description: LM3404HV Datasheet; ComponentLink1URL: http://www.national.com/ds/LM/LM3404HV.pdf; ComponentLink2Description: LM3404HV Web Page; ComponentLink2URL: http://www.national.com/pf/LM/LM3404HV.html; ComponentLink3Description: MRA08B Package Page; ComponentLink3URL: http://www.national.com/packaging/folders/mra08b.html
footprint MRA08B_N (SOIC, 8-Leads, Body 4.9x3.9mm, Pitch 1.27mm, Exposed Pad, IPC Medium Density)
footprint MRA08B_L (SOIC, 8-Leads, Body 4.9x3.9mm, Pitch 1.27mm, Exposed Pad, IPC High Density)
footprint MRA08B_M (SOIC, 8-Leads, Body 4.9x3.9mm, Pitch 1.27mm, Exposed Pad, IPC Low Density)
pins: 1 SW (power), 2 BOOT (in), 3 DIM (in), 4 GND (power), 5 CS (in), 6 RON (in), 7 VCC (power), 8 VIN (power), 9 DAP (power)

## LM3404MA
designator U?
1.0A Constant Current Buck Regulator for High Power LED Drivers, 8-pin Narrow SOIC; PartNumber: LM3404MA; Manufacturer: National Semiconductor; PackageTopMarking: NSZXTT*L3404*MA; PowerWise: Y; CompType: MiscPower; Published: 4-Dec-2008; DatasheetVersion: Feb-2010; PackageVersion: revM, May-2009; PackageReference: M08A; Publisher: Altium Limited; PackageDescription: SOIC Narrow, 4.9 x 3.9 x 1.45mm, 8 Lead, 1.27mm Pitch; Supplier 1: Farnell; Supplier Part Number 1: 1320973; RoHS: N; PinCount: 8; Code_JEDEC: MS-012-AA; Code_IPC: SOIC127P600-8; ComponentLink1Description: LM3404 Datasheet; ComponentLink1URL: http://www.national.com/ds/LM/LM3404.pdf; ComponentLink2Description: LM3404 Web Page; ComponentLink2URL: http://www.national.com/pf/LM/LM3404.html; ComponentLink3Description: M08A Package Page; ComponentLink3URL: http://www.national.com/packaging/folders/m08a.html
footprint M08A_N (SOIC, 8-Leads, Body 4.9x3.9mm, Pitch 1.27mm, IPC Medium Density)
footprint M08A_L (SOIC, 8-Leads, Body 4.9x3.9mm, Pitch 1.27mm, IPC High Density)
footprint M08A_M (SOIC, 8-Leads, Body 4.9x3.9mm, Pitch 1.27mm, IPC Low Density)
pins: 1 SW (power), 2 BOOT (in), 3 DIM (in), 4 GND (power), 5 CS (in), 6 RON (in), 7 VCC (power), 8 VIN (power)

## LM3404MA/NOPB
designator U?
1.0A Constant Current Buck Regulator for High Power LED Drivers, 8-pin Narrow SOIC, Pb-Free; PartNumber: LM3404MA/NOPB; Manufacturer: National Semiconductor; PackageTopMarking: NSZXTT*L3404*MA; PowerWise: Y; CompType: MiscPower; Published: 1-Mar-2010; DatasheetVersion: Jun-2007; PackageVersion: revM, May-2009; PackageReference: M08A; Publisher: Altium Limited; PackageDescription: SOIC Narrow, 4.9 x 3.9 x 1.45mm, 8 Lead, 1.27mm Pitch; Supplier 1: Digi-Key; Supplier Part Number 1: LM3404MA-ND; Supplier 2: Farnell; Supplier Part Number 2: 1564777; RoHS: Y; PinCount: 8; Code_JEDEC: MS-012-AA; Code_IPC: SOIC127P600-8; ComponentLink1Description: LM3404 Datasheet; ComponentLink1URL: http://www.national.com/ds/LM/LM3404.pdf; ComponentLink2Description: LM3404 Web Page; ComponentLink2URL: http://www.national.com/pf/LM/LM3404.html; ComponentLink3Description: M08A Package Page; ComponentLink3URL: http://www.national.com/packaging/folders/m08a.html
footprint M08A_N (SOIC, 8-Leads, Body 4.9x3.9mm, Pitch 1.27mm, IPC Medium Density)
footprint M08A_L (SOIC, 8-Leads, Body 4.9x3.9mm, Pitch 1.27mm, IPC High Density)
footprint M08A_M (SOIC, 8-Leads, Body 4.9x3.9mm, Pitch 1.27mm, IPC Low Density)
pins: 1 SW (power), 2 BOOT (in), 3 DIM (in), 4 GND (power), 5 CS (in), 6 RON (in), 7 VCC (power), 8 VIN (power)

## LM3404MAX
designator U?
1.0A Constant Current Buck Regulator for High Power LED Drivers, 8-pin Narrow SOIC; PartNumber: LM3404MAX; Manufacturer: National Semiconductor; PackageTopMarking: NSZXTT*L3404*MA; PowerWise: Y; CompType: MiscPower; Published: 1-Mar-2010; DatasheetVersion: Jun-2007; PackageVersion: revM, May-2009; PackageReference: M08A; Publisher: Altium Limited; PackageDescription: SOIC Narrow, 4.9 x 3.9 x 1.45mm, 8 Lead, 1.27mm Pitch; RoHS: N; PinCount: 8; Code_JEDEC: MS-012-AA; Code_IPC: SOIC127P600-8; ComponentLink1Description: LM3404 Datasheet; ComponentLink1URL: http://www.national.com/ds/LM/LM3404.pdf; ComponentLink2Description: LM3404 Web Page; ComponentLink2URL: http://www.national.com/pf/LM/LM3404.html; ComponentLink3Description: M08A Package Page; ComponentLink3URL: http://www.national.com/packaging/folders/m08a.html
footprint M08A_N (SOIC, 8-Leads, Body 4.9x3.9mm, Pitch 1.27mm, IPC Medium Density)
footprint M08A_L (SOIC, 8-Leads, Body 4.9x3.9mm, Pitch 1.27mm, IPC High Density)
footprint M08A_M (SOIC, 8-Leads, Body 4.9x3.9mm, Pitch 1.27mm, IPC Low Density)
pins: 1 SW (power), 2 BOOT (in), 3 DIM (in), 4 GND (power), 5 CS (in), 6 RON (in), 7 VCC (power), 8 VIN (power)

## LM3404MAX/NOPB
designator U?
1.0A Constant Current Buck Regulator for High Power LED Drivers, 8-pin Narrow SOIC, Pb-Free; PartNumber: LM3404MAX/NOPB; Manufacturer: National Semiconductor; PackageTopMarking: NSZXTT*L3404*MA; PowerWise: Y; CompType: MiscPower; Published: 1-Mar-2010; DatasheetVersion: Jun-2007; PackageVersion: revM, May-2009; PackageReference: M08A; Publisher: Altium Limited; PackageDescription: SOIC Narrow, 4.9 x 3.9 x 1.45mm, 8 Lead, 1.27mm Pitch; Supplier 1: Digi-Key; Supplier Part Number 1: LM3404MAX-ND; Supplier 2: Digi-Key; Supplier Part Number 2: LM3404MAXCT-ND; Supplier 3: Digi-Key; Supplier Part Number 3: LM3404MAXDKR-ND; RoHS: Y; PinCount: 8; Code_JEDEC: MS-012-AA; Code_IPC: SOIC127P600-8; ComponentLink1Description: LM3404 Datasheet; ComponentLink1URL: http://www.national.com/ds/LM/LM3404.pdf; ComponentLink2Description: LM3404 Web Page; ComponentLink2URL: http://www.national.com/pf/LM/LM3404.html; ComponentLink3Description: M08A Package Page; ComponentLink3URL: http://www.national.com/packaging/folders/m08a.html
footprint M08A_N (SOIC, 8-Leads, Body 4.9x3.9mm, Pitch 1.27mm, IPC Medium Density)
footprint M08A_L (SOIC, 8-Leads, Body 4.9x3.9mm, Pitch 1.27mm, IPC High Density)
footprint M08A_M (SOIC, 8-Leads, Body 4.9x3.9mm, Pitch 1.27mm, IPC Low Density)
pins: 1 SW (power), 2 BOOT (in), 3 DIM (in), 4 GND (power), 5 CS (in), 6 RON (in), 7 VCC (power), 8 VIN (power)

## LM3404MR/NOPB
designator U?
1.0A Constant Current Buck Regulator for High Power LED Drivers, 8-pin PSOP, Pb-Free; PartNumber: LM3404MR/NOPB; Manufacturer: National Semiconductor; PackageTopMarking: NSXYTT*L3404*MR; PowerWise: Y; CompType: MiscPower; Published: 1-Mar-2010; DatasheetVersion: Jun-2007; PackageVersion: revB, Dec-2007; PackageReference: MRA08B; Publisher: Altium Limited; PackageDescription: Molded, PSOP .193 x .154 x .058in, 8 Lead, .050in Pitch, Large DAP; Supplier 1: Digi-Key; Supplier Part Number 1: LM3404MR-ND; Supplier 2: Farnell; Supplier Part Number 2: 1564784; RoHS: Y; PinCount: 8; Code_JEDEC: MS-012-AA; ComponentLink1Description: LM3404 Datasheet; ComponentLink1URL: http://www.national.com/ds/LM/LM3404.pdf; ComponentLink2Description: LM3404 Web Page; ComponentLink2URL: http://www.national.com/pf/LM/LM3404.html; ComponentLink3Description: MRA08B Package Page; ComponentLink3URL: http://www.national.com/packaging/folders/mra08b.html
footprint MRA08B_N (SOIC, 8-Leads, Body 4.9x3.9mm, Pitch 1.27mm, Exposed Pad, IPC Medium Density)
footprint MRA08B_L (SOIC, 8-Leads, Body 4.9x3.9mm, Pitch 1.27mm, Exposed Pad, IPC High Density)
footprint MRA08B_M (SOIC, 8-Leads, Body 4.9x3.9mm, Pitch 1.27mm, Exposed Pad, IPC Low Density)
pins: 1 SW (power), 2 BOOT (in), 3 DIM (in), 4 GND (power), 5 CS (in), 6 RON (in), 7 VCC (power), 8 VIN (power), 9 DAP (power)

## LM3404MRX/NOPB
designator U?
1.0A Constant Current Buck Regulator for High Power LED Drivers, 8-pin PSOP, Pb-Free; PartNumber: LM3404MRX/NOPB; Manufacturer: National Semiconductor; PackageTopMarking: NSXYTT*L3404*MR; PowerWise: Y; CompType: MiscPower; Published: 1-Mar-2010; DatasheetVersion: Jun-2007; PackageVersion: revB, Dec-2007; PackageReference: MRA08B; Publisher: Altium Limited; PackageDescription: Molded, PSOP .193 x .154 x .058in, 8 Lead, .050in Pitch, Large DAP; Supplier 1: Digi-Key; Supplier Part Number 1: LM3404MRX-ND; RoHS: Y; PinCount: 8; Code_JEDEC: MS-012-AA; ComponentLink1Description: LM3404 Datasheet; ComponentLink1URL: http://www.national.com/ds/LM/LM3404.pdf; ComponentLink2Description: LM3404 Web Page; ComponentLink2URL: http://www.national.com/pf/LM/LM3404.html; ComponentLink3Description: MRA08B Package Page; ComponentLink3URL: http://www.national.com/packaging/folders/mra08b.html
footprint MRA08B_N (SOIC, 8-Leads, Body 4.9x3.9mm, Pitch 1.27mm, Exposed Pad, IPC Medium Density)
footprint MRA08B_L (SOIC, 8-Leads, Body 4.9x3.9mm, Pitch 1.27mm, Exposed Pad, IPC High Density)
footprint MRA08B_M (SOIC, 8-Leads, Body 4.9x3.9mm, Pitch 1.27mm, Exposed Pad, IPC Low Density)
pins: 1 SW (power), 2 BOOT (in), 3 DIM (in), 4 GND (power), 5 CS (in), 6 RON (in), 7 VCC (power), 8 VIN (power), 9 DAP (power)

## LM3405AXMK/NOPB
designator U?
1.6MHz, 1A Constant Current Buck LED Driver with Internal Compensation, 6-pin Tiny SOT23, Pb-Free; PartNumber: LM3405AXMK/NOPB; Manufacturer: National Semiconductor; PackageTopMarking: SSEB*XTT; PowerWise: Y; CompType: MiscPower; Published: 1-Mar-2010; DatasheetVersion: Oct-2008; PackageVersion: revE, Nov-2008; PackageReference: MK06A; Publisher: Altium Limited; PackageDescription: Molded TSOT, 2.97 x 1.65 x 0.87mm Body, 6 Lead, 0.95mm Pitch; Supplier 1: Digi-Key; Supplier Part Number 1: LM3405AXMKTR-ND; Supplier 2: Digi-Key; Supplier Part Number 2: LM3405AXMKCT-ND; Supplier 3: Digi-Key; Supplier Part Number 3: LM3405AXMKDKR-ND; Supplier 4: Farnell; Supplier Part Number 4: 1675313; RoHS: Y; PinCount: 6; Code_JEDEC: MO-193-AA; Code_IPC: SOT26A-6; ComponentLink1Description: LM3405A Datasheet; ComponentLink1URL: http://www.national.com/ds/LM/LM3405A.pdf; ComponentLink2Description: LM3405A Web Page; ComponentLink2URL: http://www.national.com/pf/LM/LM3405A.html; ComponentLink3Description: MK06A Package Page; ComponentLink3URL: http://www.national.com/packaging/folders/mk06a.html
footprint MK06A_N (SOT23, 6-Leads, Body 3.0x1.7mm, Pitch 0.95mm, Lead Span 2.9mm, IPC Medium Density)
footprint MK06A_L (SOT23, 6-Leads, Body 3.0x1.7mm, Pitch 0.95mm, Lead Span 2.9mm, IPC High Density)
footprint MK06A_M (SOT23, 6-Leads, Body 3.0x1.7mm, Pitch 0.95mm, Lead Span 2.9mm, IPC Low Density)
pins: 1 BST, 2 GND (power), 3 FB (in), 4 EN/DIM (in), 5 VIN (power), 6 SW (power)

## LM3405AXMKE/NOPB
designator U?
1.6MHz, 1A Constant Current Buck LED Driver with Internal Compensation, 6-pin Tiny SOT23, Pb-Free; PartNumber: LM3405AXMKE/NOPB; Manufacturer: National Semiconductor; PackageTopMarking: SSEB*XTT; PowerWise: Y; CompType: MiscPower; Published: 1-Mar-2010; DatasheetVersion: Oct-2008; PackageVersion: revE, Nov-2008; PackageReference: MK06A; Publisher: Altium Limited; PackageDescription: Molded TSOT, 2.97 x 1.65 x 0.87mm Body, 6 Lead, 0.95mm Pitch; Supplier 1: Digi-Key; Supplier Part Number 1: LM3405AXMKE-ND; RoHS: Y; PinCount: 6; Code_JEDEC: MO-193-AA; Code_IPC: SOT26A-6; ComponentLink1Description: LM3405A Datasheet; ComponentLink1URL: http://www.national.com/ds/LM/LM3405A.pdf; ComponentLink2Description: LM3405A Web Page; ComponentLink2URL: http://www.national.com/pf/LM/LM3405A.html; ComponentLink3Description: MK06A Package Page; ComponentLink3URL: http://www.national.com/packaging/folders/mk06a.html
footprint MK06A_N (SOT23, 6-Leads, Body 3.0x1.7mm, Pitch 0.95mm, Lead Span 2.9mm, IPC Medium Density)
footprint MK06A_L (SOT23, 6-Leads, Body 3.0x1.7mm, Pitch 0.95mm, Lead Span 2.9mm, IPC High Density)
footprint MK06A_M (SOT23, 6-Leads, Body 3.0x1.7mm, Pitch 0.95mm, Lead Span 2.9mm, IPC Low Density)
pins: 1 BST, 2 GND (power), 3 FB (in), 4 EN/DIM (in), 5 VIN (power), 6 SW (power)

## LM3405AXMKX/NOPB
designator U?
1.6MHz, 1A Constant Current Buck LED Driver with Internal Compensation, 6-pin Tiny SOT23, Pb-Free; PartNumber: LM3405AXMKX/NOPB; Manufacturer: National Semiconductor; PackageTopMarking: SSEB*XTT; PowerWise: Y; CompType: MiscPower; Published: 1-Mar-2010; DatasheetVersion: Oct-2008; PackageVersion: revE, Nov-2008; PackageReference: MK06A; Publisher: Altium Limited; PackageDescription: Molded TSOT, 2.97 x 1.65 x 0.87mm Body, 6 Lead, 0.95mm Pitch; Supplier 1: Digi-Key; Supplier Part Number 1: LM3405AXMKX-ND; RoHS: Y; PinCount: 6; Code_JEDEC: MO-193-AA; Code_IPC: SOT26A-6; ComponentLink1Description: LM3405A Datasheet; ComponentLink1URL: http://www.national.com/ds/LM/LM3405A.pdf; ComponentLink2Description: LM3405A Web Page; ComponentLink2URL: http://www.national.com/pf/LM/LM3405A.html; ComponentLink3Description: MK06A Package Page; ComponentLink3URL: http://www.national.com/packaging/folders/mk06a.html
footprint MK06A_N (SOT23, 6-Leads, Body 3.0x1.7mm, Pitch 0.95mm, Lead Span 2.9mm, IPC Medium Density)
footprint MK06A_L (SOT23, 6-Leads, Body 3.0x1.7mm, Pitch 0.95mm, Lead Span 2.9mm, IPC High Density)
footprint MK06A_M (SOT23, 6-Leads, Body 3.0x1.7mm, Pitch 0.95mm, Lead Span 2.9mm, IPC Low Density)
pins: 1 BST, 2 GND (power), 3 FB (in), 4 EN/DIM (in), 5 VIN (power), 6 SW (power)

## LM3405AXMY
designator U?
1.6MHz, 1A Constant Current Buck LED Driver with Internal Compensation, 8-pin eMSOP; PartNumber: LM3405AXMY; Manufacturer: National Semiconductor; PackageTopMarking: ZXTT*SVSA; PowerWise: N; CompType: MiscPower; Published: 4-Dec-2008; DatasheetVersion: Oct-2008; PackageVersion: revA, Nov-2003; PackageReference: MUY08A; Publisher: Altium Limited; PackageDescription: Molded Mini-SO, Exposed Pad, .118 x .118 x .034in Body, 8 Lead, .0256in Pitch; Supplier 1: Farnell; Supplier Part Number 1: 1679649; RoHS: Y; PinCount: 8; Code_JEDEC: MO-187-AA; ComponentLink1Description: LM3405A Datasheet; ComponentLink1URL: http://www.national.com/ds/LM/LM3405A.pdf; ComponentLink2Description: LM3405A Web Page; ComponentLink2URL: http://www.national.com/pf/LM/LM3405A.html; ComponentLink3Description: MUY08A Package Page; ComponentLink3URL: http://www.national.com/packaging/folders/muy08a.html
footprint MUY08A_N (TSOP, 8-Leads, Body 3x3mm, Pitch 0.65mm, Exposed Pad, IPC Medium Density)
footprint MUY08A_L (TSOP, 8-Leads, Body 3x3mm, Pitch 0.65mm, Exposed Pad, IPC High Density)
footprint MUY08A_M (TSOP, 8-Leads, Body 3x3mm, Pitch 0.65mm, Exposed Pad, IPC Low Density)
pins: 1 FB (in), 2 GND (power), 3 NC, 4 BOOST, 5 SW (power), 6 VIN (power), 7 GND (power), 8 EN/DIM (in), 9 DAP (power)

## LM3405AXMY/NOPB
designator U?
1.6MHz, 1A Constant Current Buck LED Driver with Internal Compensation, 8-pin eMSOP, Pb-Free; PartNumber: LM3405AXMY/NOPB; Manufacturer: National Semiconductor; PackageTopMarking: ZXTT*SVSA; PowerWise: N; CompType: MiscPower; Published: 1-Mar-2010; DatasheetVersion: Oct-2008; PackageVersion: revA, Nov-2003; PackageReference: MUY08A; Publisher: Altium Limited; PackageDescription: Molded Mini-SO, Exposed Pad, .118 x .118 x .034in Body, 8 Lead, .0256in Pitch; Supplier 1: Digi-Key; Supplier Part Number 1: LM3405AXMYTR-ND; Supplier 2: Digi-Key; Supplier Part Number 2: LM3405AXMYCT-ND; Supplier 3: Digi-Key; Supplier Part Number 3: LM3405AXMYDKR-ND; Supplier 4: Farnell; Supplier Part Number 4: 1684985; RoHS: Y; PinCount: 8; Code_JEDEC: MO-187-AA; ComponentLink1Description: LM3405A Datasheet; ComponentLink1URL: http://www.national.com/ds/LM/LM3405A.pdf; ComponentLink2Description: LM3405A Web Page; ComponentLink2URL: http://www.national.com/pf/LM/LM3405A.html; ComponentLink3Description: MUY08A Package Page; ComponentLink3URL: http://www.national.com/packaging/folders/muy08a.html
footprint MUY08A_N (TSOP, 8-Leads, Body 3x3mm, Pitch 0.65mm, Exposed Pad, IPC Medium Density)
footprint MUY08A_L (TSOP, 8-Leads, Body 3x3mm, Pitch 0.65mm, Exposed Pad, IPC High Density)
footprint MUY08A_M (TSOP, 8-Leads, Body 3x3mm, Pitch 0.65mm, Exposed Pad, IPC Low Density)
pins: 1 FB (in), 2 GND (power), 3 NC, 4 BOOST, 5 SW (power), 6 VIN (power), 7 GND (power), 8 EN/DIM (in), 9 DAP (power)

## LM3405AXMYX/NOPB
designator U?
1.6MHz, 1A Constant Current Buck LED Driver with Internal Compensation, 8-pin eMSOP, Pb-Free; PartNumber: LM3405AXMYX/NOPB; Manufacturer: National Semiconductor; PackageTopMarking: ZXTT*SVSA; PowerWise: N; CompType: MiscPower; Published: 1-Mar-2010; DatasheetVersion: Oct-2008; PackageVersion: revA, Nov-2003; PackageReference: MUY08A; Publisher: Altium Limited; PackageDescription: Molded Mini-SO, Exposed Pad, .118 x .118 x .034in Body, 8 Lead, .0256in Pitch; Supplier 1: Digi-Key; Supplier Part Number 1: LM3405AXMYX-ND; RoHS: Y; PinCount: 8; Code_JEDEC: MO-187-AA; ComponentLink1Description: LM3405A Datasheet; ComponentLink1URL: http://www.national.com/ds/LM/LM3405A.pdf; ComponentLink2Description: LM3405A Web Page; ComponentLink2URL: http://www.national.com/pf/LM/LM3405A.html; ComponentLink3Description: MUY08A Package Page; ComponentLink3URL: http://www.national.com/packaging/folders/muy08a.html
footprint MUY08A_N (TSOP, 8-Leads, Body 3x3mm, Pitch 0.65mm, Exposed Pad, IPC Medium Density)
footprint MUY08A_L (TSOP, 8-Leads, Body 3x3mm, Pitch 0.65mm, Exposed Pad, IPC High Density)
footprint MUY08A_M (TSOP, 8-Leads, Body 3x3mm, Pitch 0.65mm, Exposed Pad, IPC Low Density)
pins: 1 FB (in), 2 GND (power), 3 NC, 4 BOOST, 5 SW (power), 6 VIN (power), 7 GND (power), 8 EN/DIM (in), 9 DAP (power)